# EAGLE library part TMP423AIDCNR (library untitled)
±1°C Remote and Local TEMPERATURE SENSOR
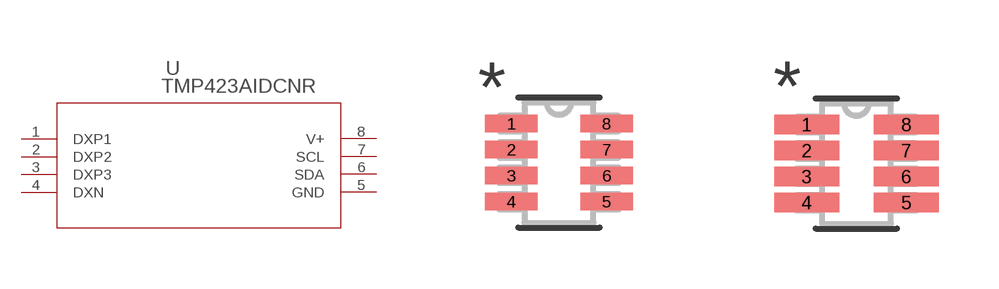
[diagram p0: symbol with the pads of DCN8; footprints DCN8, DCN8-M]

Designator prefix U

## TMP423AIDCNR (DATASHEET: /mnt/wsopt/EAGLE_things/eagle_projects/gridAppsDev/plc_modem/docs/tmp423.pdf; MANUFACTURER_PART_NUMBER: TMP423AIDCNR; VENDOR: Texas Instruments)  [DCN8]
1  DXP1  pas
2  DXP2  pas
3  DXP3  pas
4  DXN  pas
5  GND  pwr
6  SDA  pas
7  SCL  pas
8  V+  pwr

## TMP423AIDCNRDCN8-M (MANUFACTURER_PART_NUMBER: TMP423AIDCNR; VENDOR: Texas Instruments)  [DCN8-M]
Pads as for DCN8

## TMP423AIDCNRDCN8-L (MANUFACTURER_PART_NUMBER: TMP423AIDCNR; VENDOR: Texas Instruments)  [DCN8-L]
Pads as for DCN8

## Footprint DCN8 (pad centres in mm)
smd 1.321 x 0.432: 1 -1.194,0.975; 2 -1.194,0.325; 3 -1.194,-0.325; 4 -1.194,-0.975; 5 1.194,-0.975; 6 1.194,-0.325; 7 1.194,0.325; 8 1.194,0.975

## Footprint DCN8-M (pad centres in mm)
smd 1.626 x 0.483: 1 -1.245,0.975; 2 -1.245,0.325; 3 -1.245,-0.325; 4 -1.245,-0.975; 5 1.245,-0.975; 6 1.245,-0.325; 7 1.245,0.325; 8 1.245,0.975

## Footprint DCN8-L (pad centres in mm)
smd 1.016 x 0.381: 1 -1.143,0.975; 2 -1.143,0.325; 3 -1.143,-0.325; 4 -1.143,-0.975; 5 1.143,-0.975; 6 1.143,-0.325; 7 1.143,0.325; 8 1.143,0.975